# EAGLE library part RJ45-43860 (library molex)
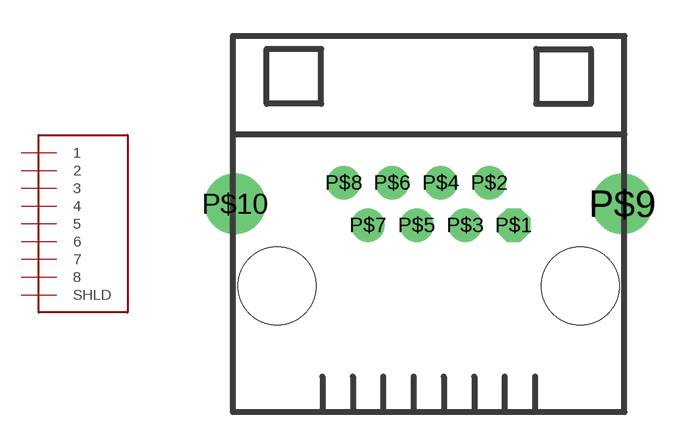
[diagram p0: symbol with the pads of 0438600010; footprint 0438600010]

Designator prefix 0010

## RJ45-43860  [0438600010]
P$1  1
P$2  2
P$3  3
P$4  4
P$5  5
P$6  6
P$7  7
P$8  8
P$9  SHLD  pwr
P$10  P$1  pwr

## Footprint 0438600010 (pad centres in mm)
drill 0.889 octagon: P$1 3.556,2.54
drill 0.889: P$2 2.54,4.318; P$3 1.524,2.54; P$4 0.508,4.318; P$5 -0.508,2.54; P$6 -1.524,4.318; P$7 -2.54,2.54; P$8 -3.556,4.318
drill 1.575 pad 2.54: P$9 8.103,3.429; P$10 -8.103,3.429
hole 3.251 at -6.35,0
hole 3.251 at 6.35,0